# Altium schematic symbol library 2D222.Schlib: 1 symbol
Pins are listed as number, name and electrical type; pins without a type are passive.

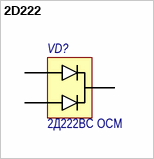
[diagram p0: symbol 2D222]

## 2D222
designator VD?, comment Наименование: 2Д222ВС ОСМ  (hidden comment: 2D222VS "OSM")
Сдвоенный диод; Потребление, Вт: 0,004; Назначение: Сдвоенный диод; ComponentLink1Description: DataSheet; ComponentLink1URL: https://eandc.ru/pdf/diod/2d222.pdf
footprint 4116.4-3_offcut
pins: 8, 11, 17